# Altium integrated library OSSI-1 Z Panel.IntLib: 229 symbols (part 2 of 2)
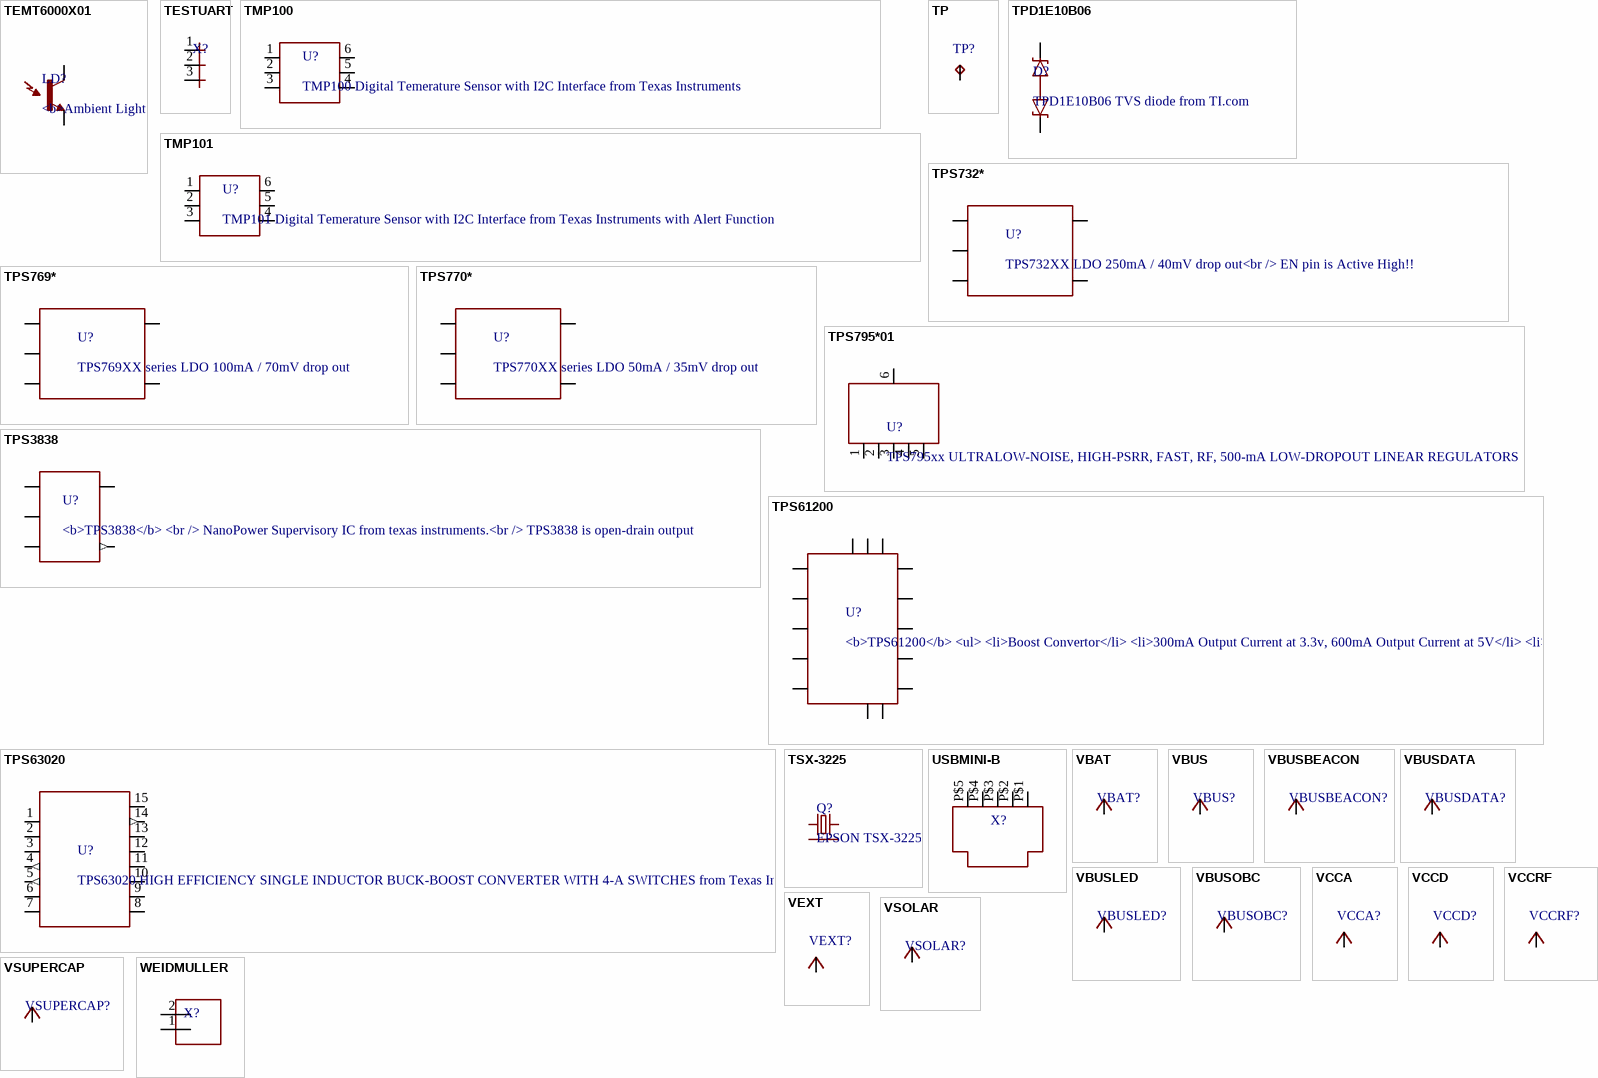
[diagram p8: symbols TEMT6000X01 to WEIDMULLER]

## TPS61200
designator U?, comment <b>TPS61200</b> / <ul> / <li>Boost Convertor</li> / <li>300mA Output Current at 3.3v, 600mA Output Current at 5V</li> / <li> Operating Input Voltage Range: 0.3V to 5.5V</li>
footprint QFN-10-POWERPAD
pins: 1 P$1 (power), 2 P$2 (power), 3 P$3, 4 P$4 (power), 5 P$5 (power), 6 P$6, 7 P$7, 8 P$8, 9 P$9 (power), 10 P$10, TPAD0, TPAD1, TPAD2, TPAD3, TPAD4

## TPS63020
designator U?, comment TPS63020 HIGH EFFICIENCY SINGLE INDUCTOR BUCK-BOOST CONVERTER WITH 4-A SWITCHES from Texas Instruments
footprint VSON-14
pins: 1 VINA, 2 GND (oe), 3 FB, 4 VOUT (out), 5 VOUT2 (out), 6 L2, 7 L2_2, 8 L1, 9 L1_2, 10 VIN, 11 VIN2, 12 EN, 13 SYNC/PS, 14 PG (out), 15 PGND (oe)

## TSX-3225
designator Q?, comment EPSON TSX-3225 SMD MHz Crystal <br /> / <a href="http://www.epsontoyocom.co.jp/english/product/Crystal/set02/tsx3225/">http://www.epsontoyocom.co.jp/english/product/Crystal/set02/tsx3225/</a><br /> / <br/> / <td colspan="2"> / <table width="100%" border="1" cellpadding="1" cellspacing="0" bordercolor="#CCCCCC"> / <tr> / <td >Nominal frequency range</td> / <td >16.000 MHz to 48.000 MHz</td> / </tr> / <tr> / <td>Operating temperature range</td> / <td>-20  to +75 </td> / </tr> / <tr> / <td>Frequency tolerance</td> / <td>±10 x 10<sup>-6</sup></td> / </tr> / <tr> / <td>Frequency versus<br /> / temperature characteristics<br /> / (standard)</td> / <td >±10 x 10<sup>-6</sup></td> / </tr> / </table> / </td>
footprint TSX-3225
pins: 1, 2, 3, 4

## USBMINI-B
designator X?
footprint UX60-MB-5S8
pins: P$1, P$2, P$3, P$4, P$5

## VBAT
designator VBAT?
pins: VBAT (oe)

## VBUS
designator VBUS?
pins: VBUS (oe)

## VBUSBEACON
designator VBUSBEACON?
pins: VBUSBEACON (oe)

## VBUSDATA
designator VBUSDATA?
pins: VBUSDATA (oe)

## VBUSLED
designator VBUSLED?
pins: VBUSLED (oe)

## VBUSOBC
designator VBUSOBC?
pins: VBUSOBC (oe)

## VCCA
designator VCCA?
pins: VCCA (oe)

## VCCD
designator VCCD?
pins: VCCD (oe)

## VCCRF
designator VCCRF?
pins: VCCRF (oe)

## VEXT
designator VEXT?
pins: VEXT (oe)

## VSOLAR
designator VSOLAR?
pins: VSOLAR (oe)

## VSUPERCAP
designator VSUPERCAP?
pins: VSUPERCAP (oe)

## WEIDMULLER
designator X?
footprint WEIDMULLER1760490000
pins: 1, 2